# EAGLE library part CON-HIROSE_FH12-45S-0.5S (library eTapper1main30)
0.5mm Pitch Connectors For FPC/FFC Source: Data sheet <http://www.hirose.co.jp/cataloge_hp/e58605370.pdf>
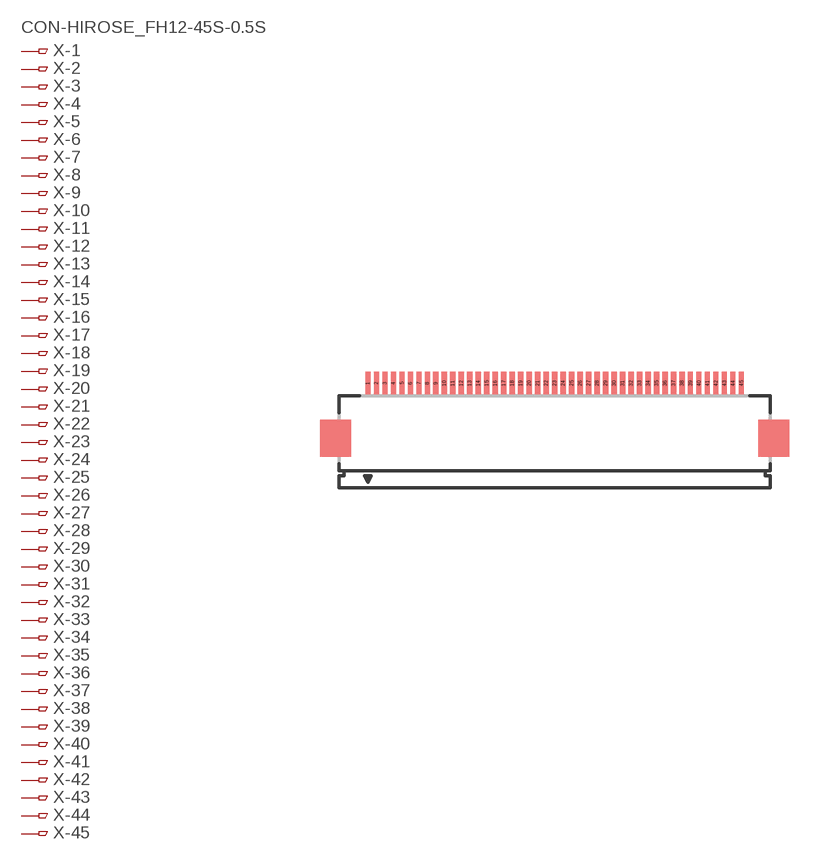
[diagram p2: symbol with the pads of CON-HIROSE_FH12-45S-0.5SH; footprint CON-HIROSE_FH12-45S-0.5SH]

Designator prefix X; gates -1=CON-HIROSE_PINV -2=CON-HIROSE_PIN -3=CON-HIROSE_PIN -4=CON-HIROSE_PIN -5=CON-HIROSE_PIN -6=CON-HIROSE_PIN -7=CON-HIROSE_PIN -8=CON-HIROSE_PIN -9=CON-HIROSE_PIN -10=CON-HIROSE_PIN -11=CON-HIROSE_PIN -12=CON-HIROSE_PIN -13=CON-HIROSE_PIN -14=CON-HIROSE_PIN -15=CON-HIROSE_PIN -16=CON-HIROSE_PIN -17=CON-HIROSE_PIN -18=CON-HIROSE_PIN -19=CON-HIROSE_PIN -20=CON-HIROSE_PIN -21=CON-HIROSE_PIN -22=CON-HIROSE_PIN -23=CON-HIROSE_PIN -24=CON-HIROSE_PIN -25=CON-HIROSE_PIN -26=CON-HIROSE_PIN -27=CON-HIROSE_PIN -28=CON-HIROSE_PIN -29=CON-HIROSE_PIN -30=CON-HIROSE_PIN -31=CON-HIROSE_PIN -32=CON-HIROSE_PIN -33=CON-HIROSE_PIN -34=CON-HIROSE_PIN -35=CON-HIROSE_PIN -36=CON-HIROSE_PIN -37=CON-HIROSE_PIN -38=CON-HIROSE_PIN -39=CON-HIROSE_PIN -40=CON-HIROSE_PIN -41=CON-HIROSE_PIN -42=CON-HIROSE_PIN -43=CON-HIROSE_PIN -44=CON-HIROSE_PIN -45=CON-HIROSE_PIN

## CON-HIROSE_FH12-45S-0.5SH (OC_FARNELL: unknown; OC_NEWARK: unknown)  [CON-HIROSE_FH12-45S-0.5SH]
1  -1:1  pas
2  -2:1  pas
3  -3:1  pas
4  -4:1  pas
5  -5:1  pas
6  -6:1  pas
7  -7:1  pas
8  -8:1  pas
9  -9:1  pas
10  -10:1  pas
11  -11:1  pas
12  -12:1  pas
13  -13:1  pas
14  -14:1  pas
15  -15:1  pas
16  -16:1  pas
17  -17:1  pas
18  -18:1  pas
19  -19:1  pas
20  -20:1  pas
21  -21:1  pas
22  -22:1  pas
23  -23:1  pas
24  -24:1  pas
25  -25:1  pas
26  -26:1  pas
27  -27:1  pas
28  -28:1  pas
29  -29:1  pas
30  -30:1  pas
31  -31:1  pas
32  -32:1  pas
33  -33:1  pas
34  -34:1  pas
35  -35:1  pas
36  -36:1  pas
37  -37:1  pas
38  -38:1  pas
39  -39:1  pas
40  -40:1  pas
41  -41:1  pas
42  -42:1  pas
43  -43:1  pas
44  -44:1  pas
45  -45:1  pas

## Footprint CON-HIROSE_FH12-45S-0.5SH (pad centres in mm)
0.5mm Pitch Connectors For FPC/FFC Source: Data sheet <http://www.hirose.co.jp/cataloge_hp/e58605370.pdf>
smd 0.3 x 1.3: 1 -13,3.25; 2 -12.5,3.25; 3 -12,3.25; 4 -11.5,3.25; 5 -11,3.25; 6 -10.5,3.25; 7 -10,3.25; 8 -9.5,3.25; 9 -9,3.25; 10 -8.5,3.25; 11 -8,3.25; 12 -7.5,3.25; 13 -7,3.25; 14 -6.5,3.25; 15 -6,3.25; 16 -5.5,3.25; 17 -5,3.25; 18 -4.5,3.25; 19 -4,3.25; 20 -3.5,3.25; 21 -3,3.25; 22 -2.5,3.25; 23 -2,3.25; 24 -1.5,3.25; 25 -1,3.25; 26 -0.5,3.25; 27 0,3.25; 28 0.5,3.25; 29 1,3.25; 30 1.5,3.25; 31 2,3.25; 32 2.5,3.25; 33 3,3.25; 34 3.5,3.25; 35 4,3.25; 36 4.5,3.25; 37 5,3.25; 38 5.5,3.25; 39 6,3.25; 40 6.5,3.25; 41 7,3.25; 42 7.5,3.25; 43 8,3.25; 44 8.5,3.25; 45 9,3.25